# Altium footprint library Power_Amplifiers_Audio_GOST.PcbLib: 1 footprints
Each footprint in its own frame and in the unit in brackets; x right, y up, seen from the top. Pads: shape width x height; smd on the part's side, far side on the other; paste and mask are expansions set on the pad; w line width, h text height; cw(c..) or ccw(c..) is an arc to the next point about the centre after c.
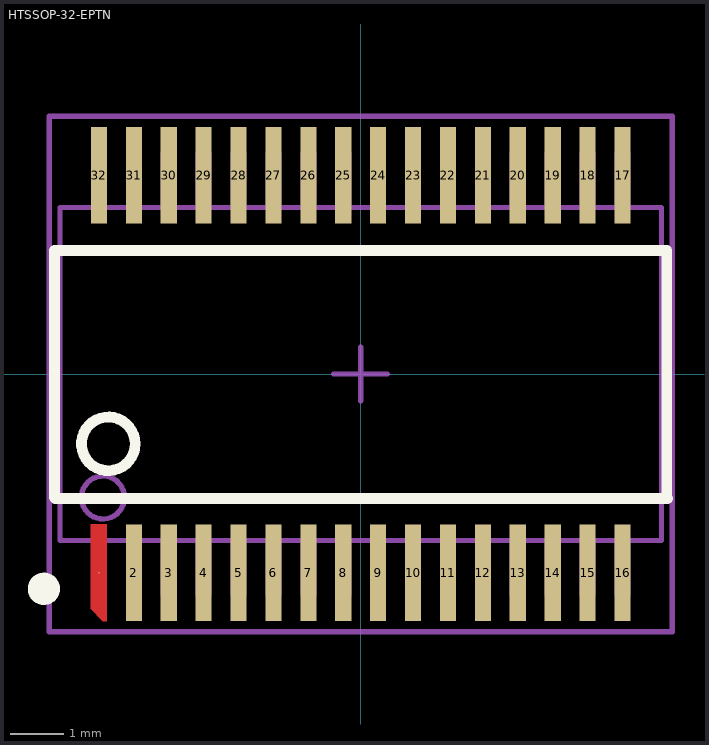
[diagram p0: the footprint, top view; thin cyan lines are the x and y axes]

## HTSSOP-32-EPTN [mm]
height 1.2
pads (32):
  round 0.025 smd: 1(-4.875,-3.7)
  rect 0.3x1.8 smd: 2(-4.225,-3.7) 3(-3.575,-3.7) 4(-2.925,-3.7) 5(-2.275,-3.7) 6(-1.625,-3.7) 7(-0.975,-3.7) 8(-0.325,-3.7) 9(0.325,-3.7) 10(0.975,-3.7) 11(1.625,-3.7) 12(2.275,-3.7) 13(2.925,-3.7) 14(3.575,-3.7) 15(4.225,-3.7) 16(4.875,-3.7) 17(4.875,3.7) 18(4.225,3.7) 19(3.575,3.7) 20(2.925,3.7) 21(2.275,3.7) 22(1.625,3.7) 23(0.975,3.7) 24(0.325,3.7) 25(-0.325,3.7) 26(-0.975,3.7) 27(-1.625,3.7) 28(-2.275,3.7) 29(-2.925,3.7) 30(-3.575,3.7) 31(-4.225,3.7) 32(-4.875,3.7)
Top Layer:
  region: -4.725,-2.8 -5.025,-2.8 -5.025,-4.375 -4.8,-4.6 -4.725,-4.6
Top Overlay:
  circle w0.2: c-4.7,-1.3 r0.5
  circle w0.3: c-5.9,-4 r0.15
  lines w0.2: -5.7,-2.3 -5.7,2.3 5.7,2.3 5.7,-2.3 ; -5.689,-2.318 5.711,-2.318
Top Package:
  circle w0.1: c-4.8,-2.3 r0.4
  lines w0.1: -4.975,-3.1 -4.975,-4.1 -4.775,-4.1 -4.775,-3.1 ; -4.975,3.1 -4.975,4.1 -4.775,4.1 -4.775,3.1 ; -4.325,-3.1 -4.325,-4.1 -4.125,-4.1 -4.125,-3.1 ; -4.325,3.1 -4.325,4.1 -4.125,4.1 -4.125,3.1 ; -3.675,-3.1 -3.675,-4.1 -3.475,-4.1 -3.475,-3.1 ; -3.675,3.1 -3.675,4.1 -3.475,4.1 -3.475,3.1 ; -3.025,-3.1 -3.025,-4.1 -2.825,-4.1 -2.825,-3.1 ; -3.025,3.1 -3.025,4.1 -2.825,4.1 -2.825,3.1 ; -2.375,-3.1 -2.375,-4.1 -2.175,-4.1 -2.175,-3.1 ; -2.375,3.1 -2.375,4.1 -2.175,4.1 -2.175,3.1 ; -1.725,-3.1 -1.725,-4.1 -1.525,-4.1 -1.525,-3.1 ; -1.725,3.1 -1.725,4.1 -1.525,4.1 -1.525,3.1 ; -1.075,-3.1 -1.075,-4.1 -0.875,-4.1 -0.875,-3.1 ; -1.075,3.1 -1.075,4.1 -0.875,4.1 -0.875,3.1 ; -0.425,-3.1 -0.425,-4.1 -0.225,-4.1 -0.225,-3.1 ; -0.425,3.1 -0.425,4.1 -0.225,4.1 -0.225,3.1 ; 0.225,-3.1 0.225,-4.1 0.425,-4.1 0.425,-3.1 ; 0.225,3.1 0.225,4.1 0.425,4.1 0.425,3.1 ; 0.875,-3.1 0.875,-4.1 1.075,-4.1 1.075,-3.1 ; 0.875,3.1 0.875,4.1 1.075,4.1 1.075,3.1 ; 1.525,-3.1 1.525,-4.1 1.725,-4.1 1.725,-3.1 ; 1.525,3.1 1.525,4.1 1.725,4.1 1.725,3.1 ; 2.175,-3.1 2.175,-4.1 2.375,-4.1 2.375,-3.1 ; 2.175,3.1 2.175,4.1 2.375,4.1 2.375,3.1 ; 2.825,-3.1 2.825,-4.1 3.025,-4.1 3.025,-3.1 ; 2.825,3.1 2.825,4.1 3.025,4.1 3.025,3.1 ; 3.475,-3.1 3.475,-4.1 3.675,-4.1 3.675,-3.1 ; 3.475,3.1 3.475,4.1 3.675,4.1 3.675,3.1 ; 4.125,-3.1 4.125,-4.1 4.325,-4.1 4.325,-3.1 ; 4.125,3.1 4.125,4.1 4.325,4.1 4.325,3.1 ; 4.775,-3.1 4.775,-4.1 4.975,-4.1 4.975,-3.1 ; 4.775,3.1 4.775,4.1 4.975,4.1 4.975,3.1 ; -5.6,-3.1 -5.6,3.1 5.6,3.1 5.6,-3.1 -5.6,-3.1
Top Comment:
  text ".Comment" at -2.129,-0.504 h1.5
Top Designator:
  text ".Designator" at -3.437,-0.481 h2
Top Border:
  lines w0.1: -0.5,0 0.5,0 ; 0,-0.5 0,0.5 ; -5.8,-4.8 5.8,-4.8 5.8,4.8 -5.8,4.8 -5.8,-4.8
3D body "HTSSOP-TP-32N.step": height 1.21, standoff 0, extent -5.55,-4.225 5.55,4.075